# Altium schematic symbol library eliot.SchLib: 9 symbols
Pins are listed as number, name and electrical type; pins without a type are passive.

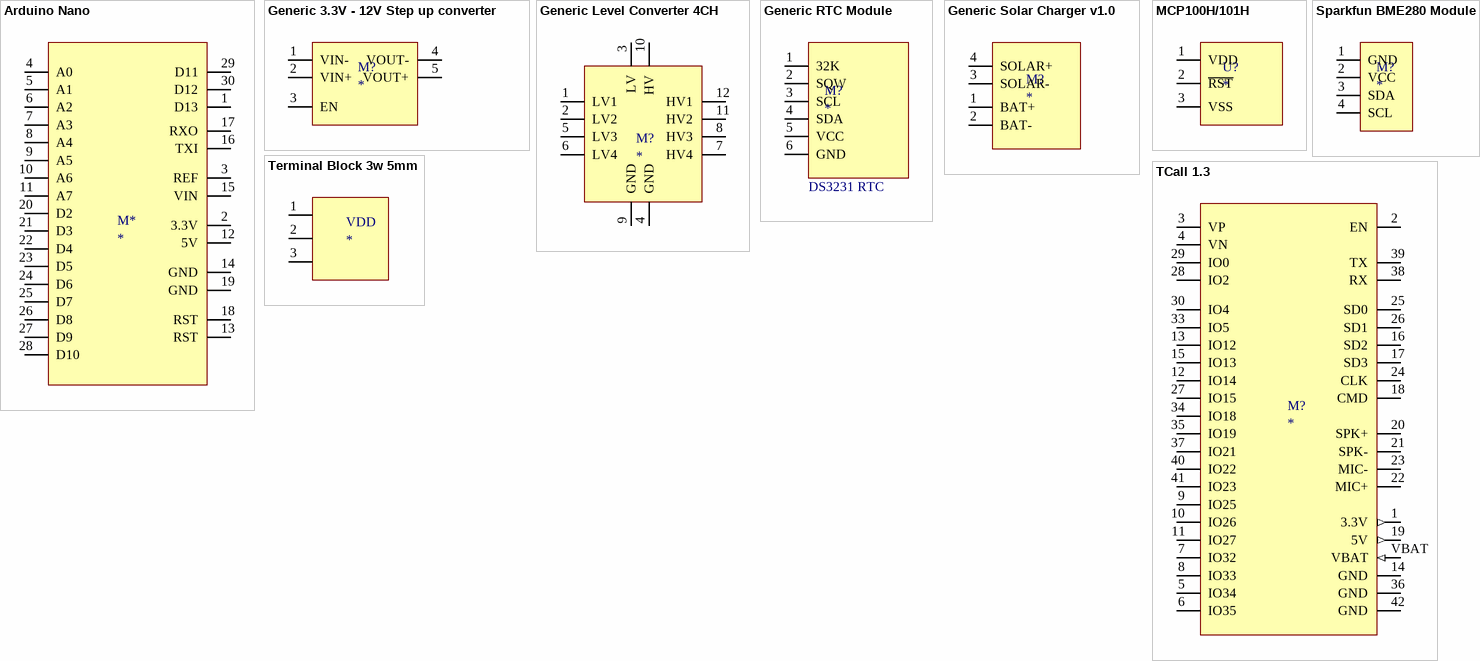
[diagram p0: symbols Arduino Nano to Terminal Block 3w 5mm]

## Arduino Nano
designator M*
footprint Arduino Nano
pins: 1 D13, 2 3.3V, 3 REF, 4 A0, 5 A1, 6 A2, 7 A3, 8 A4, 9 A5, 10 A6, 11 A7, 12 5V, 13 RST, 14 GND, 15 VIN, 16 TXI, 17 RXO, 18 RST, 19 GND, 20 D2, 21 D3, 22 D4, 23 D5, 24 D6, 25 D7, 26 D8, 27 D9, 28 D10, 29 D11, 30 D12

## Generic 3.3V - 12V Step up converter
designator M?
footprint Generic 3.3 - 12V step up
pins: 1 VIN-, 2 VIN+, 3 EN, 4 VOUT-, 5 VOUT+

## Generic Level Converter 4CH
designator M?
footprint Generic Level Converter
pins: 1 LV1, 2 LV2, 3 LV, 4 GND, 5 LV3, 6 LV4, 7 HV4, 8 HV3, 9 GND, 10 HV, 11 HV2, 12 HV1

## Generic RTC Module
designator M?
footprint GENERIC RTC Module
pins: 1 32K, 2 SQW, 3 SCL, 4 SDA, 5 VCC, 6 GND
text: DS3231 RTC

## Generic Solar Charger v1.0
designator M?
footprint Generic solar charger
pins: 1 BAT+, 2 BAT-, 3 SOLAR-, 4 SOLAR+

## MCP100H/101H
designator U?
footprint TO-92A (TO, Flat Index; 3 In-Line, Axial Leads; Body Dia. 4.5mm; Leads 0.51 x 0.48 mm (max))
pins: 1 VDD, 2 ~{RST}, 3 VSS

## Sparkfun BME280 Module
designator M?
footprint Sparkfun BME280 Module
pins: 1 GND, 2 VCC, 3 SDA, 4 SCL

## TCall 1.3
designator M?
footprint TCALL V1.3
pins: 1 3.3V (out), 2 EN, 3 VP, 4 VN, 5 IO34, 6 IO35, 7 IO32, 8 IO33, 9 IO25, 10 IO26, 11 IO27, 12 IO14, 13 IO12, 14 GND, 15 IO13, 16 SD2, 17 SD3, 18 CMD, 19 5V (out), 20 SPK+, 21 SPK-, 22 MIC+, 23 MIC-, 24 CLK, 25 SD0, 26 SD1, 27 IO15, 28 IO2, 29 IO0, 30 IO4, 33 IO5, 34 IO18, 35 IO19, 36 GND, 37 IO21, 38 RX, 39 TX, 40 IO22, 41 IO23, 42 GND, VBAT (in)
1 alternate drawing of the same symbol

## Terminal Block 3w 5mm
designator VDD
footprint Terminal Block 3w 5mm
pins: 1, 2, 3